# Altium schematic symbol library control_board.SchLib: 9 symbols
Pins are listed as number, name and electrical type; pins without a type are passive.

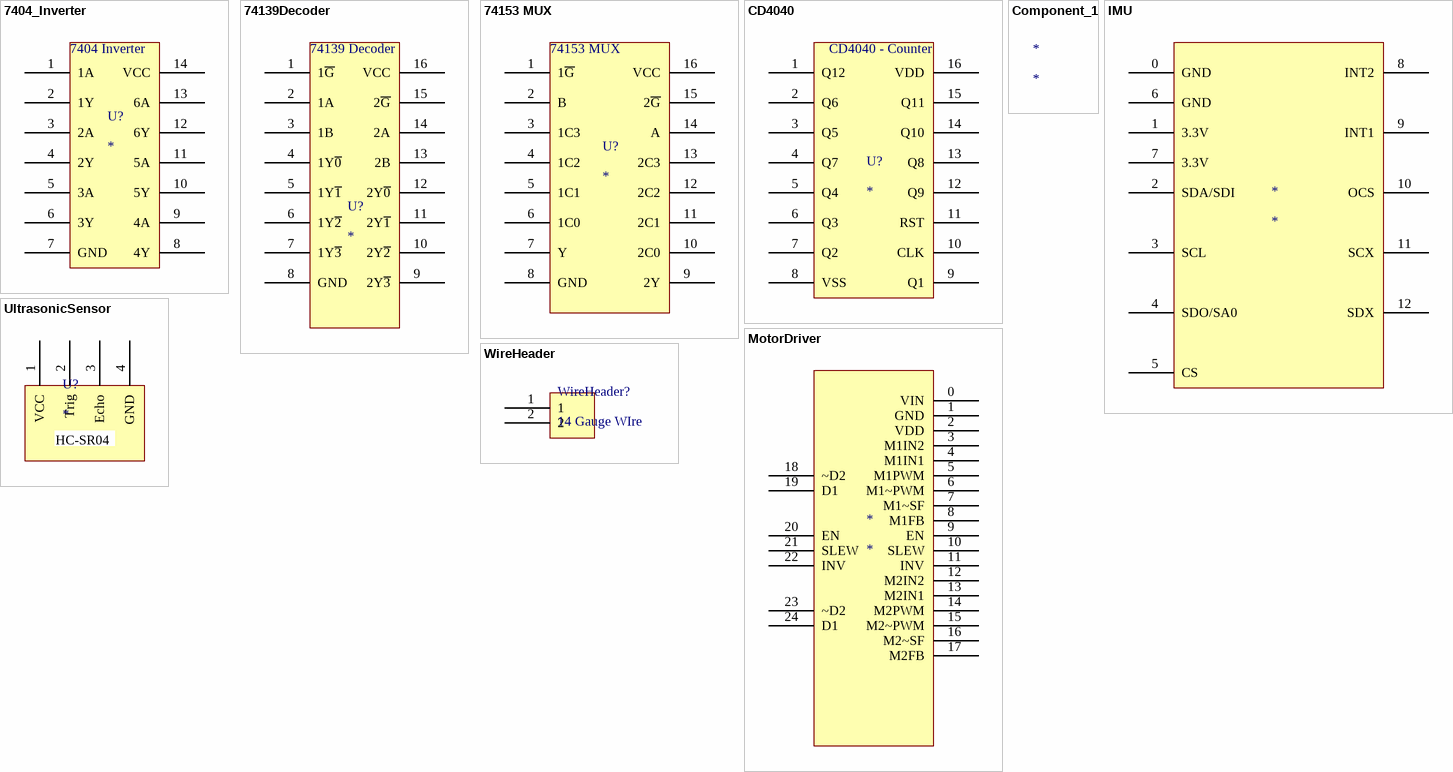
[diagram p0: symbols 7404_Inverter to WireHeader]

## 7404_Inverter
designator U?
pins: 1 1A, 2 1Y, 3 2A, 4 2Y, 5 3A, 6 3Y, 7 GND, 8 4Y, 9 4A, 10 5Y, 11 5A, 12 6Y, 13 6A, 14 VCC
text: 7404 Inverter

## 74139Decoder
designator U?
pins: 1 1~{G}, 2 1A, 3 1B, 4 1Y~{0}, 5 1Y~{1}, 6 1Y~{2}, 7 1Y~{3}, 8 GND, 9 2Y~{3}, 10 2Y~{2}, 11 2Y~{1}, 12 2Y~{0}, 13 2B, 14 2A, 15 2~{G}, 16 VCC
text: 74139 Decoder

## 74153 MUX
designator U?
pins: 1 1~{G}, 2 B, 3 1C3, 4 1C2, 5 1C1, 6 1C0, 7 Y, 8 GND, 9 2Y, 10 2C0, 11 2C1, 12 2C2, 13 2C3, 14 A, 15 2~{G}, 16 VCC

## CD4040
designator U?
pins: 1 Q12, 2 Q6, 3 Q5, 4 Q7, 5 Q4, 6 Q3, 7 Q2, 8 VSS, 9 Q1, 10 CLK, 11 RST, 12 Q9, 13 Q8, 14 Q10, 15 Q11, 16 VDD
text: CD4040 - Counter

## Component_1
designator *

## IMU
designator *
pins: 0 GND, 1 3.3V, 2 SDA/SDI, 3 SCL, 4 SDO/SA0, 5 CS, 6 GND, 7 3.3V, 8 INT2, 9 INT1, 10 OCS, 11 SCX, 12 SDX

## MotorDriver
designator *
pins: 0 VIN, 1 GND, 2 VDD, 3 M1IN2, 4 M1IN1, 5 M1PWM, 6 M1~PWM, 7 M1~SF, 8 M1FB, 9 EN, 10 SLEW, 11 INV, 12 M2IN2, 13 M2IN1, 14 M2PWM, 15 M2~PWM, 16 M2~SF, 17 M2FB, 18 ~D2, 19 D1, 20 EN, 21 SLEW, 22 INV, 23 ~D2, 24 D1

## UltrasonicSensor
designator U?
footprint Model Name (Footprint not found)
pins: 1 VCC, 2 Trig, 3 Echo, 4 GND
text: HC-SR04

## WireHeader
designator WireHeader?, comment 14 Gauge WIre
footprint WireHeader
pins: 1, 2